# EAGLE library part ADF4360 (library CougsInSpace-RF)
Integrated Synthesizer and VCO ADF4360-7 <https://github.com/CougsInSpace/Resources/blob/master/SupplierDocuments/Linear/ADF4360-7_IntegratedSynthesizerVCO-350~1800MHz.pdf> -350~1800MHz
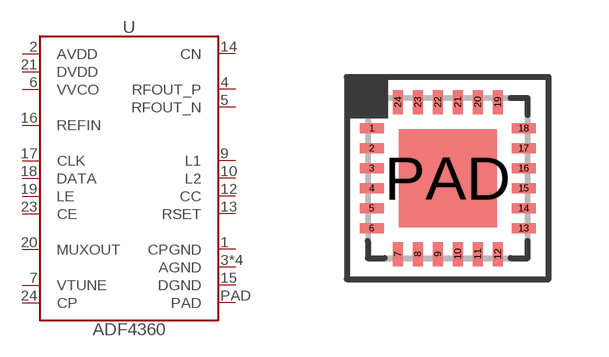
[diagram p3: symbol with the pads of QFN-24-4040; footprint QFN-24-4040]

Designator prefix U

## ADF4360 (SKU: 65-0005; VALUE: ADF4360)  [QFN-24-4040]
1  CPGND  pwr
2  AVDD  pwr
3  AGND  pwr
4  RFOUT_P  out
5  RFOUT_N  out
6  VVCO  pwr
7  VTUNE  in
8  AGND  pwr
9  L1  pas
10  L2  pas
11  AGND  pwr
12  CC  pas
13  RSET  pas
14  CN  pas
15  DGND  pwr
16  REFIN  in
17  CLK  in
18  DATA  in
19  LE  in
20  MUXOUT  out
21  DVDD  pwr
22  AGND  pwr
23  CE  in
24  CP  out
PAD  PAD  pwr

## Footprint QFN-24-4040 (pad centres in mm)
Quad Flat No-Leads (QFN) - 24 pins - 4.0 x 4.0 mm
smd 0.6 x 0.25: 1 -1.9,1.25; 2 -1.9,0.75; 3 -1.9,0.25; 4 -1.9,-0.25; 5 -1.9,-0.75; 6 -1.9,-1.25; 13 1.9,-1.25; 14 1.9,-0.75; 15 1.9,-0.25; 16 1.9,0.25; 17 1.9,0.75; 18 1.9,1.25
smd 0.25 x 0.6: 7 -1.25,-1.9; 8 -0.75,-1.9; 9 -0.25,-1.9; 10 0.25,-1.9; 11 0.75,-1.9; 12 1.25,-1.9; 19 1.25,1.9; 20 0.75,1.9; 21 0.25,1.9; 22 -0.25,1.9; 23 -0.75,1.9; 24 -1.25,1.9
smd 2.45 x 2.45: PAD 0,0